# Altium footprint library NBXX_01标准模组封装.PcbLib: 1 footprints
Each footprint in its own frame and in the unit in brackets; x right, y up, seen from the top. Pads: shape width x height; smd on the part's side, far side on the other; paste and mask are expansions set on the pad; w line width, h text height; cw(c..) or ccw(c..) is an arc to the next point about the centre after c.
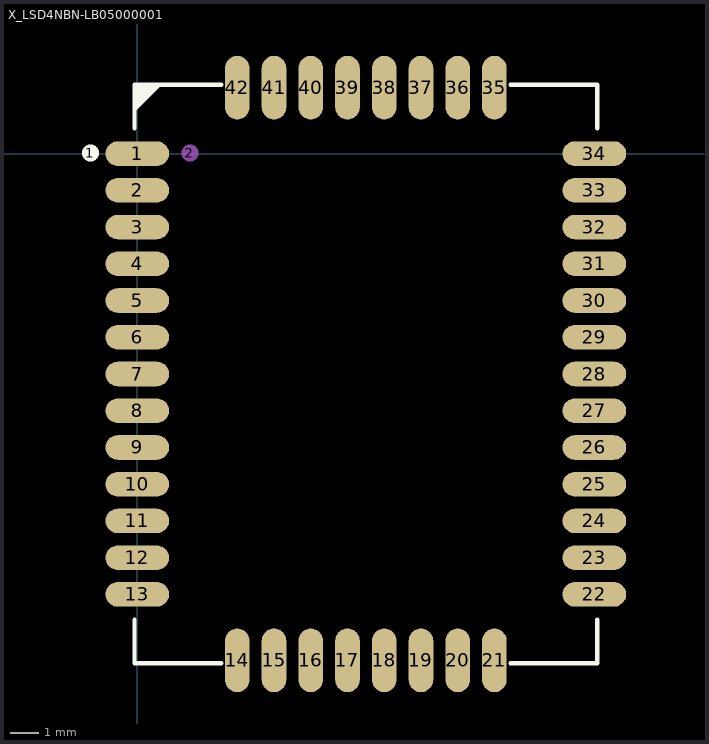
[diagram p0: the footprint, top view; thin cyan lines are the x and y axes]

## X_LSD4NBN-LB05000001 [mm]
pads (44):
  round 0.6 on Top Overlay mask+0.051: 1(-1.62,0.02)
  oval 2.2x0.85 smd: 1(0,0) 2(0,-1.27) 3(0,-2.54) 4(0,-3.81) 5(0,-5.08) 6(0,-6.35) 7(0,-7.62) 8(0,-8.89) 9(0,-10.16) 10(0,-11.43) 11(0,-12.7) 12(0,-13.97) 13(0,-15.24) 22(15.8,-15.24) 23(15.8,-13.97) 24(15.8,-12.7) 25(15.8,-11.43) 26(15.8,-10.16) 27(15.8,-8.89) 28(15.8,-7.62) 29(15.8,-6.35) 30(15.8,-5.08) 31(15.8,-3.81) 32(15.8,-2.54) 33(15.8,-1.27) 34(15.8,0)
  round 0.6 on Mech1 mask+0.051: 2(1.82,0.02)
  oval 0.85x2.2 smd: 14(3.455,-17.52) 15(4.725,-17.52) 16(5.995,-17.52) 17(7.265,-17.52) 18(8.535,-17.52) 19(9.805,-17.52) 20(11.075,-17.52) 21(12.345,-17.52) 35(12.345,2.28) 36(11.075,2.28) 37(9.805,2.28) 38(8.535,2.28) 39(7.265,2.28) 40(5.995,2.28) 41(4.725,2.28) 42(3.455,2.28)
Top Overlay:
  lines w0.15: -0.1,-16.12 -0.1,-17.62 2.9,-17.62 ; -0.1,0.88 -0.1,2.38 ; -0.1,1.535 0.745,2.38 ; -0.1,1.635 0.645,2.38 ; -0.1,1.785 0.495,2.38 ; -0.1,1.885 0.395,2.38 ; -0.1,2.16 -0.1,2.11 ; 0.125,2.11 -0.1,2.11 ; 0.126,2.154 -0.1,2.38 ; 0.145,2.282 0.145,2.38 ; 0.17,2.38 -0.1,2.11 ; 2.9,2.38 -0.1,2.38 ; 12.9,-17.62 15.9,-17.62 15.9,-16.12 ; 12.9,2.38 15.9,2.38 15.9,0.88 ; -0.1,2.11 -0.019,2.029 -0.1,2.11
3D body: height 2.2, standoff 0, extent -0.1,-17.62 15.9,2.38